# EAGLE library part CIDIC_AXI_UC_TEST_DIE (library tsmc130_AXI_uC2)
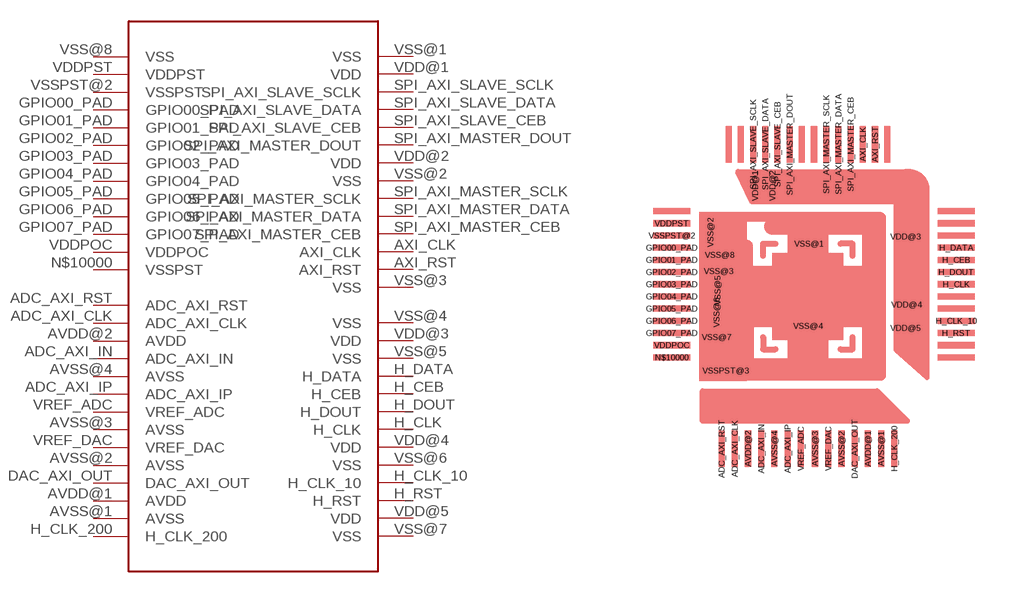
[diagram p0: symbol with the pads of CIDIC_AXI_UC_TEST_DIE; footprint CIDIC_AXI_UC_TEST_DIE]

Designator prefix -

## CIDIC_AXI_UC_TEST_DIE  [CIDIC_AXI_UC_TEST_DIE]
ADC_AXI_CLK  ADC_AXI_CLK
ADC_AXI_IN  ADC_AXI_IN
ADC_AXI_IP  ADC_AXI_IP
ADC_AXI_RST  ADC_AXI_RST
AVDD@1  AVDD
AVDD@2  AVDD
AVSS@1  AVSS
AVSS@2  AVSS
AVSS@3  AVSS
AVSS@4  AVSS
AXI_CLK  AXI_CLK
AXI_RST  AXI_RST
DAC_AXI_OUT  DAC_AXI_OUT
GPIO00_PAD  GPIO00_PAD
GPIO01_PAD  GPIO01_PAD
GPIO02_PAD  GPIO02_PAD
GPIO03_PAD  GPIO03_PAD
GPIO04_PAD  GPIO04_PAD
GPIO05_PAD  GPIO05_PAD
GPIO06_PAD  GPIO06_PAD
GPIO07_PAD  GPIO07_PAD
H_CEB  H_CEB
H_CLK  H_CLK
H_CLK_10  H_CLK_10
H_CLK_200  H_CLK_200
H_DATA  H_DATA
H_DOUT  H_DOUT
H_RST  H_RST
N$10000  VSSPST
SPI_AXI_MASTER_CEB  SPI_AXI_MASTER_CEB
SPI_AXI_MASTER_DATA  SPI_AXI_MASTER_DATA
SPI_AXI_MASTER_DOUT  SPI_AXI_MASTER_DOUT
SPI_AXI_MASTER_SCLK  SPI_AXI_MASTER_SCLK
SPI_AXI_SLAVE_CEB  SPI_AXI_SLAVE_CEB
SPI_AXI_SLAVE_DATA  SPI_AXI_SLAVE_DATA
SPI_AXI_SLAVE_SCLK  SPI_AXI_SLAVE_SCLK
VDD@1  VDD
VDD@2  VDD
VDD@3  VDD
VDD@4  VDD
VDD@5  VDD
VDDPOC  VDDPOC
VDDPST  VDDPST
VREF_ADC  VREF_ADC
VREF_DAC  VREF_DAC
VSS@1  VSS
VSS@2  VSS
VSS@3  VSS
VSS@4  VSS
VSS@5  VSS
VSS@6  VSS
VSS@7  VSS
VSS@8  VSS
VSSPST@2  VSSPST

## Footprint CIDIC_AXI_UC_TEST_DIE (pad centres in mm)
smd 0.152 x 0.914: ADC_AXI_CLK -1.829,-4.115; ADC_AXI_IN -1.168,-4.115; ADC_AXI_IP -0.508,-4.115; ADC_AXI_RST -2.159,-4.115; AVDD@1 1.499,-4.115; AVDD@2 -1.499,-4.115; AVSS@1 1.829,-4.115; AVSS@2 0.838,-4.115; AVSS@3 0.178,-4.115; AVSS@4 -0.838,-4.115; AXI_CLK 1.372,3.505; AXI_RST 1.676,3.505; DAC_AXI_OUT 1.168,-4.115; H_CLK_200 2.159,-4.115; SPI_AXI_MASTER_CEB 1.067,3.505; SPI_AXI_MASTER_DATA 0.762,3.505; SPI_AXI_MASTER_DOUT -0.457,3.505; SPI_AXI_MASTER_SCLK 0.457,3.505; SPI_AXI_SLAVE_CEB -0.762,3.505; SPI_AXI_SLAVE_DATA -1.067,3.505; SPI_AXI_SLAVE_SCLK -1.372,3.505; VREF_ADC -0.178,-4.115; VREF_DAC 0.508,-4.115
smd 0.914 x 0.152: GPIO00_PAD -3.404,0.914; GPIO01_PAD -3.404,0.61; GPIO02_PAD -3.404,0.305; GPIO03_PAD -3.404,0; GPIO04_PAD -3.404,-0.305; GPIO05_PAD -3.404,-0.61; GPIO06_PAD -3.404,-0.914; GPIO07_PAD -3.404,-1.219; H_CEB 3.708,0.61; H_CLK 3.708,0; H_CLK_10 3.708,-0.914; H_DATA 3.708,0.914; H_DOUT 3.708,0.305; H_RST 3.708,-1.219; N$10000 -3.404,-1.829; VDDPOC -3.404,-1.524; VDDPST -3.404,1.524; VSSPST@2 -3.404,1.219; VSSPST@3 -2.057,-2.159
smd 0.152 x 0.305: VDD@1 -1.321,2.464; VDD@2 -0.889,2.464; VSS@2 -2.438,1.295; VSS@5 -2.261,-0.152; VSS@6 -2.286,-0.711
smd 0.305 x 0.152: VDD@3 2.438,1.194; VDD@4 2.464,-0.508; VDD@5 2.438,-1.092; VSS@1 0.025,1.016; VSS@3 -2.235,0.33; VSS@4 0,-1.041; VSS@7 -2.286,-1.321; VSS@8 -2.21,0.737